# Altium footprint library Inductor_SMD.PcbLib: 587 footprints (part 16 of 37)
Each footprint in its own frame and in the unit in brackets; x right, y up, seen from the top. Pads: shape width x height; smd on the part's side, far side on the other; paste and mask are expansions set on the pad; w line width, h text height; cw(c..) or ccw(c..) is an arc to the next point about the centre after c.
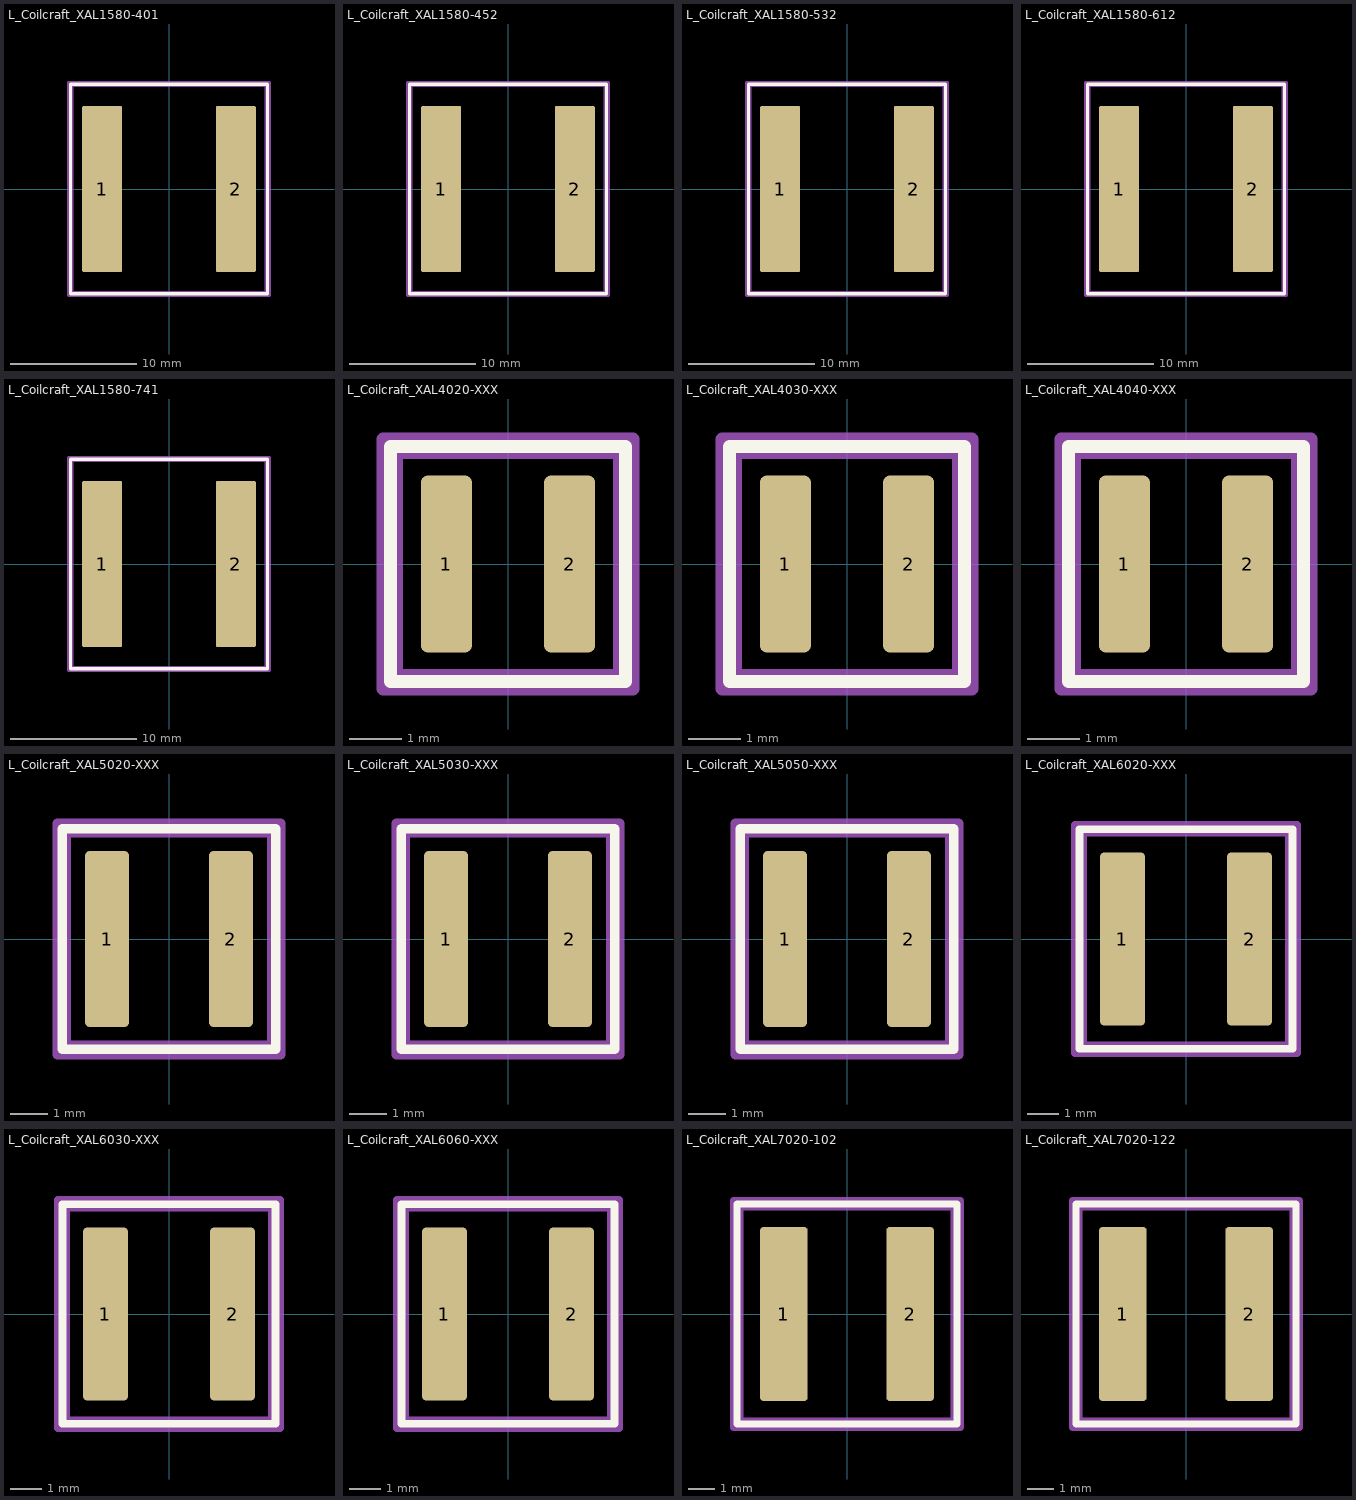
[diagram p15: the footprints below, top view; thin cyan lines are the x and y axes]

## L_Coilcraft_XAL1580-401 [mm] "L_Coilcraft_XAL1580-401"
pads (2):
  rrect8% 3.18x13.2 smd: 1(-5.3,0) 2(5.3,0)
F.SilkS:
  lines w0.254: -7.81,-8.31 -7.81,8.31 7.81,8.31 7.81,-8.31 -7.81,-8.31
Top Assembly:
  lines w0.254: -7.7,-8.2 -7.7,8.2 7.7,8.2 7.7,-8.2 -7.7,-8.2
  text "'.Designator'" at -4.047,-0.84 h1
Top Courtyard:
  lines w0.254: -7.95,-8.45 -7.95,8.45 7.95,8.45 7.95,-8.45 -7.95,-8.45
Top Designator:
  text ".Designator" at -7.618,-0.508 h1.52
3D body "L_Coilcraft_XAL1580-401.step": height 8.2, standoff 0, extent -7.7,-8.2 7.7,8.2

## L_Coilcraft_XAL1580-452 [mm] "L_Coilcraft_XAL1580-452"
pads (2):
  rrect8% 3.18x13.2 smd: 1(-5.3,0) 2(5.3,0)
F.SilkS:
  lines w0.254: -7.81,-8.31 -7.81,8.31 7.81,8.31 7.81,-8.31 -7.81,-8.31
Top Assembly:
  lines w0.254: -7.7,-8.2 -7.7,8.2 7.7,8.2 7.7,-8.2 -7.7,-8.2
  text "'.Designator'" at -4.047,-0.84 h1
Top Courtyard:
  lines w0.254: -7.95,-8.45 -7.95,8.45 7.95,8.45 7.95,-8.45 -7.95,-8.45
Top Designator:
  text ".Designator" at -7.618,-0.508 h1.52
3D body "L_Coilcraft_XAL1580-452.step": height 8, standoff 0, extent -7.7,-8.2 7.7,8.2

## L_Coilcraft_XAL1580-532 [mm] "L_Coilcraft_XAL1580-532"
pads (2):
  rrect8% 3.18x13.2 smd: 1(-5.3,0) 2(5.3,0)
F.SilkS:
  lines w0.254: -7.81,-8.31 -7.81,8.31 7.81,8.31 7.81,-8.31 -7.81,-8.31
Top Assembly:
  lines w0.254: -7.7,-8.2 -7.7,8.2 7.7,8.2 7.7,-8.2 -7.7,-8.2
  text "'.Designator'" at -4.047,-0.84 h1
Top Courtyard:
  lines w0.254: -7.95,-8.45 -7.95,8.45 7.95,8.45 7.95,-8.45 -7.95,-8.45
Top Designator:
  text ".Designator" at -7.618,-0.508 h1.52
3D body "L_Coilcraft_XAL1580-532.step": height 8, standoff 0, extent -7.7,-8.2 7.7,8.2

## L_Coilcraft_XAL1580-612 [mm] "L_Coilcraft_XAL1580-612"
pads (2):
  rrect8% 3.18x13.2 smd: 1(-5.3,0) 2(5.3,0)
F.SilkS:
  lines w0.254: -7.81,-8.31 -7.81,8.31 7.81,8.31 7.81,-8.31 -7.81,-8.31
Top Assembly:
  lines w0.254: -7.7,-8.2 -7.7,8.2 7.7,8.2 7.7,-8.2 -7.7,-8.2
  text "'.Designator'" at -4.047,-0.84 h1
Top Courtyard:
  lines w0.254: -7.95,-8.45 -7.95,8.45 7.95,8.45 7.95,-8.45 -7.95,-8.45
Top Designator:
  text ".Designator" at -7.618,-0.508 h1.52
3D body "L_Coilcraft_XAL1580-612.step": height 8, standoff 0, extent -7.7,-8.2 7.7,8.2

## L_Coilcraft_XAL1580-741 [mm] "L_Coilcraft_XAL1580-741"
pads (2):
  rrect8% 3.18x13.2 smd: 1(-5.3,0) 2(5.3,0)
F.SilkS:
  lines w0.254: -7.81,-8.31 7.81,-8.31 7.81,8.31 -7.81,8.31 -7.81,-8.31
Top Assembly:
  lines w0.254: -7.7,-8.2 7.7,-8.2 7.7,8.2 -7.7,8.2 -7.7,-8.2
  text "'.Designator'" at -4.047,-0.84 h1
Top Courtyard:
  lines w0.254: -7.95,-8.45 7.95,-8.45 7.95,8.45 -7.95,8.45 -7.95,-8.45
Top Designator:
  text ".Designator" at -7.618,-0.508 h1.52
3D body "L_Coilcraft_XAL1580-741.step": height 8.2, standoff 0, extent -7.7,-8.2 7.7,8.2

## L_Coilcraft_XAL4020-XXX [mm] "L_Coilcraft_XAL4020-XXX"
pads (2):
  rrect25% 0.98x3.4 smd: 1(-1.185,0) 2(1.185,0)
F.SilkS:
  lines w0.254: -2.26,-2.26 -2.26,2.26 2.26,2.26 2.26,-2.26 -2.26,-2.26
Top Assembly:
  lines w0.254: -2.15,-2.15 -2.15,2.15 2.15,2.15 2.15,-2.15 -2.15,-2.15
  text "'.Designator'" at -4.047,-0.84 h1
Top Courtyard:
  lines w0.254: -2.4,-2.4 -2.4,2.4 2.4,2.4 2.4,-2.4 -2.4,-2.4
Top Designator:
  text ".Designator" at -7.768,-0.508 h1.52
3D body "L_Coilcraft_XAL4020-XXX.step": height 2.1, standoff 0, extent -2.15,-2.15 2.15,2.15

## L_Coilcraft_XAL4030-XXX [mm] "L_Coilcraft_XAL4030-XXX"
pads (2):
  rrect25% 0.98x3.4 smd: 1(-1.185,0) 2(1.185,0)
F.SilkS:
  lines w0.254: -2.26,-2.26 -2.26,2.26 2.26,2.26 2.26,-2.26 -2.26,-2.26
Top Assembly:
  lines w0.254: -2.15,-2.15 -2.15,2.15 2.15,2.15 2.15,-2.15 -2.15,-2.15
  text "'.Designator'" at -4.047,-0.84 h1
Top Courtyard:
  lines w0.254: -2.4,-2.4 -2.4,2.4 2.4,2.4 2.4,-2.4 -2.4,-2.4
Top Designator:
  text ".Designator" at -7.768,-0.508 h1.52
3D body "L_Coilcraft_XAL4030-XXX.step": height 3.1, standoff 0, extent -2.15,-2.15 2.15,2.15

## L_Coilcraft_XAL4040-XXX [mm] "L_Coilcraft_XAL4040-XXX"
pads (2):
  rrect25% 0.98x3.4 smd: 1(-1.185,0) 2(1.185,0)
F.SilkS:
  lines w0.254: -2.26,-2.26 -2.26,2.26 2.26,2.26 2.26,-2.26 -2.26,-2.26
Top Assembly:
  lines w0.254: -2.15,-2.15 -2.15,2.15 2.15,2.15 2.15,-2.15 -2.15,-2.15
  text "'.Designator'" at -4.047,-0.84 h1
Top Courtyard:
  lines w0.254: -2.4,-2.4 -2.4,2.4 2.4,2.4 2.4,-2.4 -2.4,-2.4
Top Designator:
  text ".Designator" at -7.768,-0.508 h1.52
3D body "L_Coilcraft_XAL4040-XXX.step": height 4.1, standoff 0, extent -2.15,-2.15 2.15,2.15

## L_Coilcraft_XAL5020-XXX [mm] "L_Coilcraft_XAL5020-XXX"
pads (2):
  rrect21% 1.18x4.7 smd: 1(-1.655,0) 2(1.655,0)
F.SilkS:
  lines w0.254: -2.85,-2.95 -2.85,2.95 2.85,2.95 2.85,-2.95 -2.85,-2.95
Top Assembly:
  lines w0.254: -2.74,-2.84 -2.74,2.84 2.74,2.84 2.74,-2.84 -2.74,-2.84
  text "'.Designator'" at -4.047,-0.84 h1
Top Courtyard:
  lines w0.254: -2.99,-3.09 -2.99,3.09 2.99,3.09 2.99,-3.09 -2.99,-3.09
Top Designator:
  text ".Designator" at -7.768,-0.508 h1.52
3D body "L_Coilcraft_XAL5020-XXX.step": height 2, standoff 0, extent -2.74,-2.84 2.74,2.84

## L_Coilcraft_XAL5030-XXX [mm] "L_Coilcraft_XAL5030-XXX"
pads (2):
  rrect21% 1.18x4.7 smd: 1(-1.655,0) 2(1.655,0)
F.SilkS:
  lines w0.254: -2.85,-2.95 -2.85,2.95 2.85,2.95 2.85,-2.95 -2.85,-2.95
Top Assembly:
  lines w0.254: -2.74,-2.84 -2.74,2.84 2.74,2.84 2.74,-2.84 -2.74,-2.84
  text "'.Designator'" at -4.047,-0.84 h1
Top Courtyard:
  lines w0.254: -2.99,-3.09 -2.99,3.09 2.99,3.09 2.99,-3.09 -2.99,-3.09
Top Designator:
  text ".Designator" at -7.768,-0.508 h1.52
3D body "L_Coilcraft_XAL5030-XXX.step": height 3.1, standoff 0, extent -2.74,-2.84 2.74,2.84

## L_Coilcraft_XAL5050-XXX [mm] "L_Coilcraft_XAL5050-XXX"
pads (2):
  rrect21% 1.18x4.7 smd: 1(-1.655,0) 2(1.655,0)
F.SilkS:
  lines w0.254: -2.85,-2.95 -2.85,2.95 2.85,2.95 2.85,-2.95 -2.85,-2.95
Top Assembly:
  lines w0.254: -2.74,-2.84 -2.74,2.84 2.74,2.84 2.74,-2.84 -2.74,-2.84
  text "'.Designator'" at -4.047,-0.84 h1
Top Courtyard:
  lines w0.254: -2.99,-3.09 -2.99,3.09 2.99,3.09 2.99,-3.09 -2.99,-3.09
Top Designator:
  text ".Designator" at -7.768,-0.508 h1.52
3D body "L_Coilcraft_XAL5050-XXX.step": height 5.1, standoff 0, extent -2.74,-2.84 2.74,2.84

## L_Coilcraft_XAL6020-XXX [mm] "L_Coilcraft_XAL6020-XXX"
pads (2):
  rrect17% 1.43x5.5 smd: 1(-2.02,0) 2(2.02,0)
F.SilkS:
  lines w0.254: -3.39,-3.49 3.39,-3.49 3.39,3.49 -3.39,3.49 -3.39,-3.49
Top Assembly:
  lines w0.254: -3.28,-3.38 3.28,-3.38 3.28,3.38 -3.28,3.38 -3.28,-3.38
  text "'.Designator'" at -4.047,-0.84 h1
Top Courtyard:
  lines w0.254: -3.53,-3.63 3.53,-3.63 3.53,3.63 -3.53,3.63 -3.53,-3.63
Top Designator:
  text ".Designator" at -7.768,-0.508 h1.52
3D body "L_Coilcraft_XAL6020-XXX.step": height 2.1, standoff 0, extent -3.28,-3.38 3.28,3.38

## L_Coilcraft_XAL6030-XXX [mm] "L_Coilcraft_XAL6030-XXX"
pads (2):
  rrect17% 1.43x5.5 smd: 1(-2.02,0) 2(2.02,0)
F.SilkS:
  lines w0.254: -3.39,-3.49 -3.39,3.49 3.39,3.49 3.39,-3.49 -3.39,-3.49
Top Assembly:
  lines w0.254: -3.28,-3.38 -3.28,3.38 3.28,3.38 3.28,-3.38 -3.28,-3.38
  text "'.Designator'" at -4.047,-0.84 h1
Top Courtyard:
  lines w0.254: -3.53,-3.63 -3.53,3.63 3.53,3.63 3.53,-3.63 -3.53,-3.63
Top Designator:
  text ".Designator" at -7.768,-0.508 h1.52
3D body "L_Coilcraft_XAL6030-XXX.step": height 3.1, standoff 0, extent -3.28,-3.38 3.28,3.38

## L_Coilcraft_XAL6060-XXX [mm] "L_Coilcraft_XAL6060-XXX"
pads (2):
  rrect17% 1.43x5.5 smd: 1(-2.02,0) 2(2.02,0)
F.SilkS:
  lines w0.254: -3.39,-3.49 -3.39,3.49 3.39,3.49 3.39,-3.49 -3.39,-3.49
Top Assembly:
  lines w0.254: -3.28,-3.38 -3.28,3.38 3.28,3.38 3.28,-3.38 -3.28,-3.38
  text "'.Designator'" at -4.047,-0.84 h1
Top Courtyard:
  lines w0.254: -3.53,-3.63 -3.53,3.63 3.53,3.63 3.53,-3.63 -3.53,-3.63
Top Designator:
  text ".Designator" at -7.768,-0.508 h1.52
3D body "L_Coilcraft_XAL6060-XXX.step": height 6.1, standoff 0, extent -3.28,-3.38 3.28,3.38

## L_Coilcraft_XAL7020-102 [mm] "L_Coilcraft_XAL7020-102"
pads (2):
  rrect14% 1.78x6.5 smd: 1(-2.36,0) 2(2.36,0)
F.SilkS:
  lines w0.254: -4.11,-4.11 4.11,-4.11 4.11,4.11 -4.11,4.11 -4.11,-4.11
Top Assembly:
  lines w0.254: -4,-4 4,-4 4,4 -4,4 -4,-4
  text "'.Designator'" at -4.047,-0.84 h1
Top Courtyard:
  lines w0.254: -4.25,-4.25 4.25,-4.25 4.25,4.25 -4.25,4.25 -4.25,-4.25
Top Designator:
  text ".Designator" at -7.618,-0.508 h1.52
3D body "L_Coilcraft_XAL7020-102.step": height 2, standoff 0, extent -4,-4 4,4

## L_Coilcraft_XAL7020-122 [mm] "L_Coilcraft_XAL7020-122"
pads (2):
  rrect14% 1.78x6.5 smd: 1(-2.36,0) 2(2.36,0)
F.SilkS:
  lines w0.254: -4.11,-4.11 -4.11,4.11 4.11,4.11 4.11,-4.11 -4.11,-4.11
Top Assembly:
  lines w0.254: -4,-4 -4,4 4,4 4,-4 -4,-4
  text "'.Designator'" at -4.047,-0.84 h1
Top Courtyard:
  lines w0.254: -4.25,-4.25 -4.25,4.25 4.25,4.25 4.25,-4.25 -4.25,-4.25
Top Designator:
  text ".Designator" at -7.618,-0.508 h1.52
3D body "L_Coilcraft_XAL7020-122.step": height 2, standoff 0, extent -4,-4 4,4